# Altium schematic symbol library Tracking-Car.SCHLIB: 29 symbols
Pins are listed as number, name and electrical type; pins without a type are passive.

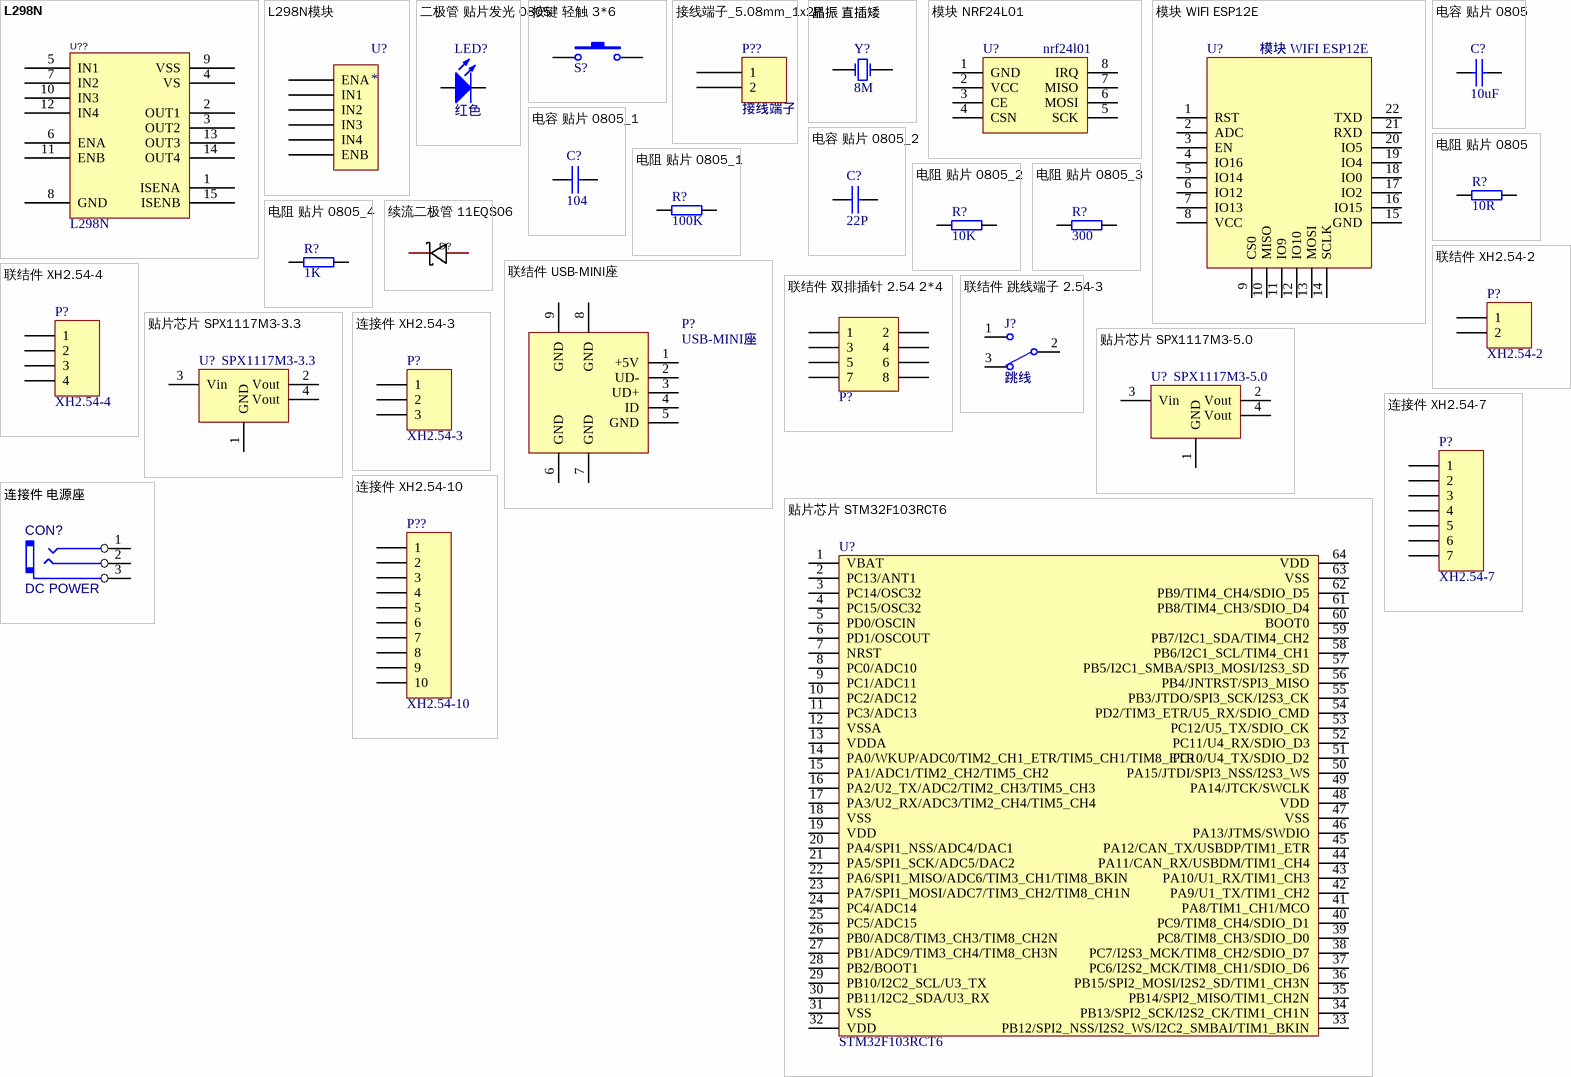
[diagram p0: symbols L298N to 连接件 电源座]

## L298N
designator U??
Designer: U?; Symbol: L298N; Device: L298N
footprint MULTIWATT-15_L19.6-W5.0-P1.27-L
pins: 1 ISENA, 2 OUT1, 3 OUT2, 4 VS, 5 IN1, 6 ENA, 7 IN2, 8 GND, 9 VSS, 10 IN3, 11 ENB, 12 IN4, 13 OUT3, 14 OUT4, 15 ISENB

## L298N模块
designator U?
footprint L298N模块
pins: 1 ENA, 2 IN1, 3 IN2, 4 IN3, 5 IN4, 6 ENB

## 二极管 贴片发光 0805
designator LED?, comment 红色
名称: 贴片发光二极管; 封装: 0805; 单位: 个
footprint LED0805 (Chip Capacitor; Body 2.0 x 1.2 mm (LxW typ))
pins: 1 A, 2 K

## 按键 轻触 3*6
designator S?, comment key  (value not drawn)
单位: 个; 名称: 开关; 封装: 直插 12*12*12
footprint 按键 轻触  6*3
pins: 1, 2

## 接线端子_5.08mm_1x2P
designator P??, comment 接线端子
footprint CONN-TH_2P-P5.00_WJ500V-5.08-2P
pins: 1, 2

## 晶振 直插矮
designator Y?, comment 8M
名称: 晶振; 封装: 直插矮; 单位: 个
footprint 晶振 BCY-W2/E4.7 (Quartz Crystal, Thru-Hole; 2 Leads; Body 11.35 x 4.65 x 13.46 mm (LxWxH max))
pins: 1 OSC1, 2 OSC2

## 模块 NRF24L01
designator U?, comment nrf24l01
名称: 无线模块; 封装: DIP8; 单位: 个
footprint 模块 NRF24L01
pins: 1 GND, 2 VCC, 3 CE, 4 CSN, 5 SCK, 6 MOSI, 7 MISO, 8 IRQ

## 模块 WIFI ESP12E
designator U?
单位: 个; 封装: 表贴; 名称: WIFI模块
footprint 模块 WIFI ESP12E (Footprint not found)
pins: 1 RST, 2 ADC, 3 EN, 4 IO16, 5 IO14, 6 IO12, 7 IO13, 8 VCC, 9 CS0, 10 MISO, 11 IO9, 12 IO10, 13 MOSI, 14 SCLK, 15 GND, 16 IO15, 17 IO2, 18 IO0, 19 IO4, 20 IO5, 21 RXD, 22 TXD

## 电容 贴片 0805
designator C?, comment 10uF
名称: 贴片电容; 封装: 0805; 单位: 个
footprint 0805
pins: 1, 2
2 alternate drawings of the same symbol

## 电容 贴片 0805_1
designator C?, comment 104
名称: 贴片电容; 封装: 0805; 单位: 个
footprint 0805
pins: 1, 2
2 alternate drawings of the same symbol

## 电容 贴片 0805_2
designator C?, comment 22P
名称: 贴片电容; 封装: 0805; 单位: 个
footprint 0805
pins: 1, 2
2 alternate drawings of the same symbol

## 电阻 贴片 0805
designator R?, comment 10R
名称: 贴片电阻; 封装: 0805; 单位: 个
footprint 0805
pins: 1, 2

## 电阻 贴片 0805_1
designator R?, comment 100K
名称: 贴片电阻; 封装: 0805; 单位: 个
footprint 0805
pins: 1, 2

## 电阻 贴片 0805_2
designator R?, comment 10K
名称: 贴片电阻; 封装: 0805; 单位: 个
footprint 0805
pins: 1, 2

## 电阻 贴片 0805_3
designator R?, comment 300
名称: 贴片电阻; 封装: 0805; 单位: 个
footprint 0805
pins: 1, 2

## 电阻 贴片 0805_4
designator R?, comment 1K
名称: 贴片电阻; 封装: 0805; 单位: 个
footprint 0805
pins: 1, 2

## 续流二极管 11EQS06
designator D?, comment 11EQSO6  (value not drawn)
Manufacturer: onsemi(安森美); Name: MBR0530T1G; Add into BOM: yes; Reverse Voltage (Vr): 30V; Average Rectified Current (Io): 500mA; Forward Voltage (Vf@If): 430mV@500mA; Symbol: MBR0530T1G; Device: MBR0530T1G; LCSC Part Name: MBR0530T1G; Supplier Part: C82046; Manufacturer Part: MBR0530T1G; Supplier Footprint: SOD-123; JLCPCB Part Class: Extended Part; Datasheet: https://atta.szlcsc.com/upload/public/pdf/source/20160910/1473490306796.PDF; Supplier: LCSC; Convert to PCB: yes
footprint SMA_L4.3-W2.6-LS5.2-RD
pins: 1 C, 2 A

## 联结件 USB-MINI座
designator P?, comment USB-MINI座
单位: 个; 封装: 440068; 名称: 联结件
footprint USB MINI DIP
pins: 1 +5V, 2 UD-, 3 UD+, 4 ID, 5 GND, 6 GND, 7 GND, 8 GND, 9 GND

## 联结件 XH2.54-2
designator P?, comment XH2.54-2
名称: 联结件; 封装: VH3.96-2; 单位: 套
footprint VH2.54_2
pins: 1, 2

## 联结件 XH2.54-4
designator P?, comment XH2.54-4
名称: 联结件; 单位: 套; 封装: XH2.54-4
footprint VH2.54_4
pins: 1, 2, 3, 4

## 联结件 双排插针 2.54 2*4
designator P?, comment 双排插针 2.54 2*4  (value not drawn)
名称: 联结件; 单位: 个; 封装: 直插
footprint 双排插针 2.54 2*4
pins: 1, 2, 3, 4, 5, 6, 7, 8

## 联结件 跳线端子 2.54-3
designator J?, comment 跳线
单位: 个; 封装: 直插; 名称: 跳线插针
footprint 单排插针 2.54 1*3
pins: 1, 2, 3

## 贴片芯片 SPX1117M3-3.3
designator U?, comment SPX1117M3-3.3
LDO; 名称: 贴片芯片; 封装: SOT223; 单位: 个
footprint SOT223 (SOT-223/SC-73; 4 Leads; Body 6.7 x 7.3 mm, inc. leads (LxW max))
pins: 1 GND, 2 Vout, 3 Vin, 4 Vout

## 贴片芯片 SPX1117M3-5.0
designator U?, comment SPX1117M3-5.0
LDO; 名称: 贴片芯片; 封装: SOT223; 单位: 个
footprint SOT223 (SOT-223/SC-73; 4 Leads; Body 6.7 x 7.3 mm, inc. leads (LxW max))
pins: 1 GND, 2 Vout, 3 Vin, 4 Vout

## 贴片芯片 STM32F103RCT6
designator U?, comment STM32F103RCT6
单片机; 名称: 芯片; 封装: LQFP64; 单位: 片
footprint LQFP64
pins: 1 VBAT, 2 PC13/ANT1, 3 PC14/OSC32, 4 PC15/OSC32, 5 PD0/OSCIN, 6 PD1/OSCOUT, 7 NRST, 8 PC0/ADC10, 9 PC1/ADC11, 10 PC2/ADC12, 11 PC3/ADC13, 12 VSSA, 13 VDDA, 14 PA0/WKUP/ADC0/TIM2_CH1_ETR/TIM5_CH1/TIM8_ETR, 15 PA1/ADC1/TIM2_CH2/TIM5_CH2, 16 PA2/U2_TX/ADC2/TIM2_CH3/TIM5_CH3, 17 PA3/U2_RX/ADC3/TIM2_CH4/TIM5_CH4, 18 VSS, 19 VDD, 20 PA4/SPI1_NSS/ADC4/DAC1, 21 PA5/SPI1_SCK/ADC5/DAC2, 22 PA6/SPI1_MISO/ADC6/TIM3_CH1/TIM8_BKIN, 23 PA7/SPI1_MOSI/ADC7/TIM3_CH2/TIM8_CH1N, 24 PC4/ADC14, 25 PC5/ADC15, 26 PB0/ADC8/TIM3_CH3/TIM8_CH2N, 27 PB1/ADC9/TIM3_CH4/TIM8_CH3N, 28 PB2/BOOT1, 29 PB10/I2C2_SCL/U3_TX, 30 PB11/I2C2_SDA/U3_RX, 31 VSS, 32 VDD, 33 PB12/SPI2_NSS/I2S2_WS/I2C2_SMBAI/TIM1_BKIN, 34 PB13/SPI2_SCK/I2S2_CK/TIM1_CH1N, 35 PB14/SPI2_MISO/TIM1_CH2N, 36 PB15/SPI2_MOSI/I2S2_SD/TIM1_CH3N, 37 PC6/I2S2_MCK/TIM8_CH1/SDIO_D6, 38 PC7/I2S3_MCK/TIM8_CH2/SDIO_D7, 39 PC8/TIM8_CH3/SDIO_D0, 40 PC9/TIM8_CH4/SDIO_D1, 41 PA8/TIM1_CH1/MCO, 42 PA9/U1_TX/TIM1_CH2, 43 PA10/U1_RX/TIM1_CH3, 44 PA11/CAN_RX/USBDM/TIM1_CH4, 45 PA12/CAN_TX/USBDP/TIM1_ETR, 46 PA13/JTMS/SWDIO, 47 VSS, 48 VDD, 49 PA14/JTCK/SWCLK, 50 PA15/JTDI/SPI3_NSS/I2S3_WS, 51 PC10/U4_TX/SDIO_D2, 52 PC11/U4_RX/SDIO_D3, 53 PC12/U5_TX/SDIO_CK, 54 PD2/TIM3_ETR/U5_RX/SDIO_CMD, 55 PB3/JTDO/SPI3_SCK/I2S3_CK, 56 PB4/JNTRST/SPI3_MISO, 57 PB5/I2C1_SMBA/SPI3_MOSI/I2S3_SD, 58 PB6/I2C1_SCL/TIM4_CH1, 59 PB7/I2C1_SDA/TIM4_CH2, 60 BOOT0, 61 PB8/TIM4_CH3/SDIO_D4, 62 PB9/TIM4_CH4/SDIO_D5, 63 VSS, 64 VDD

## 连接件 XH2.54-3
designator P?, comment XH2.54-3
名称: 连接件; 单位: 套; 封装: XH2.54-3
footprint 单排插针 2.54 1*3
pins: 1, 2, 3

## 连接件 XH2.54-7
designator P?, comment XH2.54-7
名称: 连接件; 单位: 套; 封装: XH2.54-7
footprint VH2.54_7
pins: 1, 2, 3, 4, 5, 6, 7

## 连接件 XH2.54-10
designator P??, comment XH2.54-10
名称: 连接件; 单位: 套; 封装: XH2.54-10
footprint VH2.54_10
pins: 1, 2, 3, 4, 5, 6, 7, 8, 9, 10

## 连接件 电源座
designator CON?, comment DC POWER
footprint Power  2.1mm
pins: 1, 2, 3
2 alternate drawings of the same symbol